# Altium schematic symbol library Battery_Protection.SchLib: 4 symbols
Pins are listed as number, name and electrical type; pins without a type are passive.

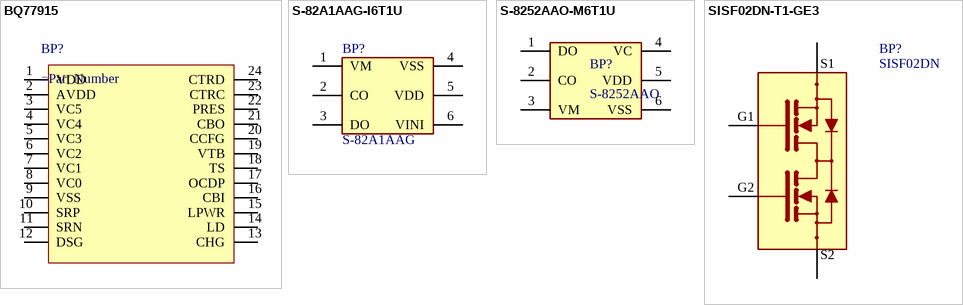
[diagram p0: symbols BQ77915 to SISF02DN-T1-GE3]

## BQ77915
designator BP?
pins: 1 VDD, 2 AVDD, 3 VC5, 4 VC4, 5 VC3, 6 VC2, 7 VC1, 8 VC0, 9 VSS, 10 SRP, 11 SRN, 12 DSG, 13 CHG, 14 LD, 15 LPWR, 16 CBI, 17 OCDP, 18 TS, 19 VTB, 20 CCFG, 21 CBO, 22 PRES, 23 CTRC, 24 CTRD

## S-82A1AAG-I6T1U
designator BP?, comment S-82A1AAG
Battery Battery Protection IC Lithium Ion/Polymer SNT-6A / Function Battery Protection / Battery Chemistry Lithium Ion/Polymer / Fault Protection Over Current; Manufacturer: ABLIC U.S.A. Inc.; Supplier 1: Digi-Key; Supplier Part Number 1: 1662-S-82A1AAG-I6T1UCT-ND; ComponentLink1Description: HelpURL; ComponentLink1URL: https://www.ablic.com/en/doc/datasheet/battery_protection/S82A1A_E.pdf; Case: SNT-6A; Fault Protection: Over Current; Function: Battery Protection; Battery Chemistry: Lithium Ion/Polymer
pins: 1 VM (power), 2 CO, 3 DO, 4 VSS (power), 5 VDD (power), 6 VINI

## S-8252AAO-M6T1U
designator BP?, comment S-8252AAO
Battery Battery Protection IC Lithium Ion/Polymer SOT-23-6 / Function Battery Protection / Battery Chemistry Lithium Ion/Polymer / Fault Protection Over Current; Manufacturer: ABLIC U.S.A. Inc.; ComponentLink1Description: HelpURL; ComponentLink1URL: https://www.ablic.com/en/doc/datasheet/battery_protection/S8252_E.pdf; Case: SOT-23-6; Function: Battery Protection; Battery Chemistry: Lithium Ion/Polymer; Supplier 1: Mouser; Supplier Part Number 1: 628-S-8252AAO-M6T1U; Fault Protection: Over Current
footprint SOT-23-6 (SOT23, 6-Leads, Body 2,90x2,80mm, Pitch 0,95mm, IPC Medium Density)
pins: 1 DO, 2 CO, 3 VM (power), 4 VC (power), 5 VDD (power), 6 VSS (power)

## SISF02DN-T1-GE3
designator BP?, comment SISF02DN
Mosfet Array 2 N-Channel (Dual) / Common Drain 25V 30.5A (Ta), 60A (Tc) 5.2W (Ta), 69.4W (Tc) / Surface Mount PowerPAK® 1212-8SCD; Manufacturer: Vishay Siliconix; Case: PowerPAK; FET Type: 2 N-Channel (Dual) Common Drain; Supplier 1: Digi-Key; Supplier Part Number 1: SISF02DN-T1-GE3CT-ND; ComponentLink1Description: HelpURL; ComponentLink1URL: https://www.vishay.com/docs/76933/sisf02dn.pdf
footprint PowerPAK
pins: G1, G2, S1, S2